# Altium schematic symbol library LM293733.SchLib: 1 symbol
Pins are listed as number, name and electrical type; pins without a type are passive.

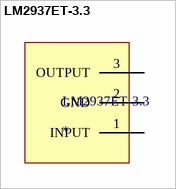
[diagram p0: symbol LM2937ET-3.3]

## LM2937ET-3.3
designator LM2937ET-3.3
3.3V linear Regulator
footprint TO-220V
pins: 1 INPUT (power), 2 GND, 3 OUTPUT (power)